# Altium footprint library PcbLib1_2019.2.10.PcbLib: 87 footprints (part 3 of 6)
Each footprint in its own frame and in the unit in brackets; x right, y up, seen from the top. Pads: shape width x height; smd on the part's side, far side on the other; paste and mask are expansions set on the pad; w line width, h text height; cw(c..) or ccw(c..) is an arc to the next point about the centre after c.
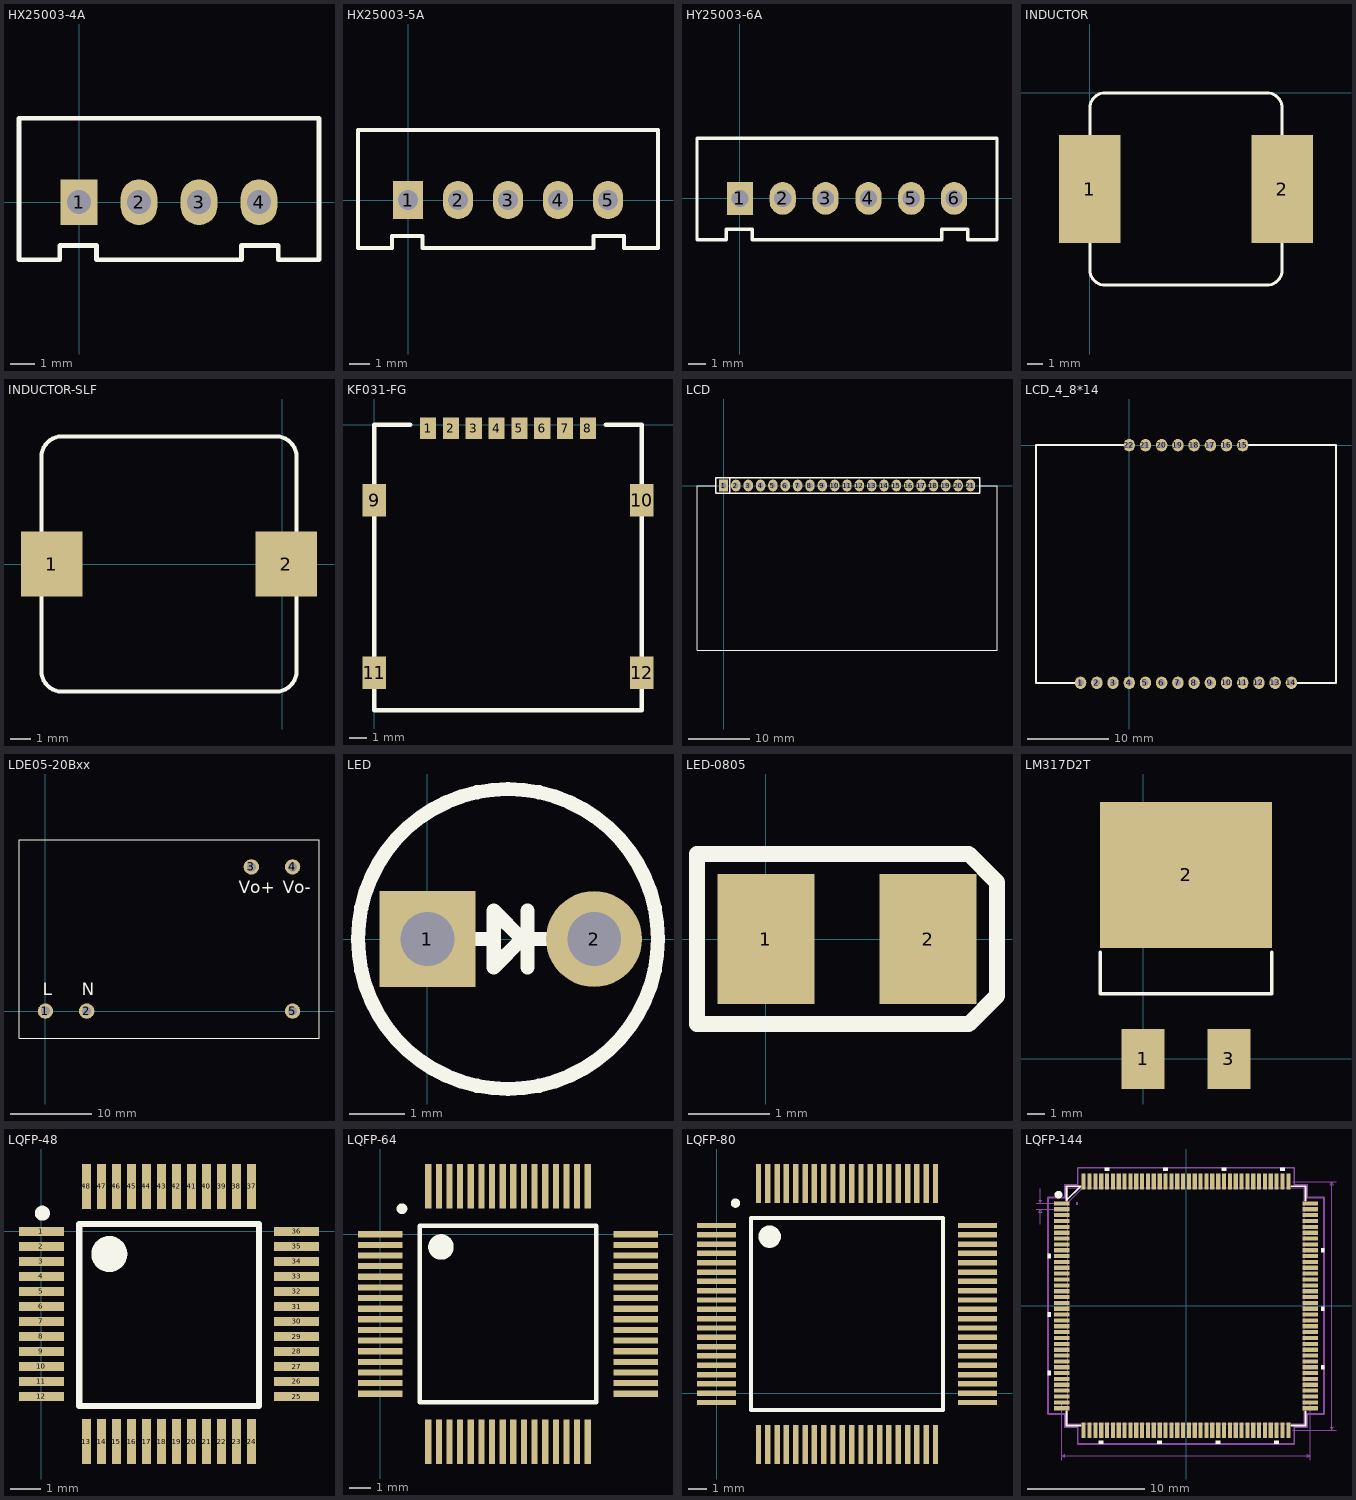
[diagram p2: the footprints below, top view; thin cyan lines are the x and y axes]

## HX25003-4A [mm]
pads (4):
  rect 1.524x1.905 hole 1: 1(0,0)
  oval 1.524x1.905 hole 1: 2(2.5,0) 3(5,0) 4(7.5,0)
Top Overlay:
  lines w0.2: -2.5,3.5 -2.5,-2.4 -0.8,-2.4 -0.8,-1.8 ; 0.73,-1.8 0.73,-2.4 6.77,-2.4 6.77,-1.8 ; 5.02,3.5 10,3.5 10,-2.4 8.3,-2.4 8.3,-1.8
  lines w0.203: -2.5,3.5 5.02,3.5 ; -0.8,-1.8 0.73,-1.8 ; 6.77,-1.8 8.3,-1.8

## HX25003-5A [mm]
pads (5):
  rect 1.524x1.905 hole 1: 1(0,0)
  oval 1.524x1.905 hole 1: 2(2.5,0) 3(5,0) 4(7.5,0) 5(10,0)
Top Overlay:
  lines w0.2: -2.5,3.5 -2.5,-2.4 -0.8,-2.4 -0.8,-1.8 ; 0.73,-1.8 0.73,-2.4 9.27,-2.4 9.27,-1.8 ; 5.02,3.5 12.5,3.5 12.5,-2.4 10.8,-2.4 10.8,-1.8
  lines w0.203: -2.5,3.5 5.02,3.5 ; -0.8,-1.8 0.73,-1.8 ; 9.27,-1.8 10.8,-1.8

## HY25003-6A [mm]
pads (6):
  rect 1.524x1.905 hole 1: 1(0,0)
  oval 1.524x1.905 hole 1: 2(2.5,0) 3(5,0) 4(7.5,0) 5(10,0) 6(12.5,0)
Top Overlay:
  lines w0.2: -2.5,3.5 -2.5,-2.4 -0.8,-2.4 -0.8,-1.8 ; 0.73,-1.8 0.73,-2.4 9.27,-2.4 11.77,-2.4 11.77,-1.8 ; 5.02,3.5 12.5,3.5 15,3.5 15,-2.4 13.3,-2.4 13.3,-1.8
  lines w0.203: -2.5,3.5 5.02,3.5 ; -0.8,-1.8 0.73,-1.8 ; 11.77,-1.8 13.3,-1.8

## INDUCTOR [mm]
pads (2):
  rect 4x7 smd: 1(0,-6.25) 2(12.5,-6.25)
Top Overlay:
  lines w0.2: 0,-11.5 ccw(c1,-11.5) 1,-12.5 11.5,-12.5 ccw(c11.5,-11.5) 12.5,-11.5 12.5,-1 ccw(c11.5,-1) 11.5,0 1,0 ccw(c1,-1) 0,-1 0,-11.5

## INDUCTOR-SLF [mm]
pads (2):
  rect 3x3.2 smd: 1(-11.3,0) 2(0.2,0)
Top Overlay:
  lines w0.2: -11.8,-5.35 -11.8,5.25 cw(c-10.8,5.25) -10.8,6.25 -0.3,6.25 cw(c-0.3,5.25) 0.7,5.25 0.7,-5.3 ; -11.8,-5.25 ccw(c-10.8,-5.25) -10.8,-6.25 ; -10.9,-6.25 -0.25,-6.25 ; -0.3,-6.25 ccw(c-0.3,-5.25) 0.7,-5.25

## KF031-FG [mm]
pads (12):
  rect 0.9x1.2 smd: 1(3.005,-0.2) 2(4.275,-0.2) 3(5.545,-0.2) 4(6.815,-0.2) 5(8.085,-0.2) 6(9.355,-0.2) 7(10.625,-0.2) 8(11.895,-0.2)
  rect 1.3x1.8 smd: 9(0,-4.2) 10(14.9,-4.2) 11(0,-13.8) 12(14.9,-13.8)
Top Overlay:
  lines w0.254: 2,0 0,0 0,-15.9 14.9,-15.9 14.9,0 12.9,0

## LCD [mil]
pads (21):
  rect 60x75 hole 36: 1(0,0)
  oval 60x75 hole 36: 2(78.74,0) 3(157.48,0) 4(236.22,0) 5(314.96,0) 6(393.7,0) 7(472.44,0) 8(551.18,0) 9(629.92,0) 10(708.66,0) 11(787.4,0) 12(866.14,0) 13(944.88,0) 14(1023.62,0) 15(1102.36,0) 16(1181.1,0) 17(1259.84,0) 18(1338.58,0) 19(1417.32,0) 20(1496.06,0) 21(1574.8,0)
Top Overlay:
  lines w7.87: -50,0 -169.29,0 -169.29,-1051.18 1744.09,-1051.18 1744.09,0 1633.86,0
  lines w8: 39.37,-50 39.37,48.96 ; 1633.86,48.96 1633.86,-50 -50,-50 -50,50 1633.86,50

## LCD_4_8*14 [mm]
pads (22):
  oval 1.4x1.524 hole 0.8: 1(-6,-29.3) 2(-4,-29.3) 3(-2,-29.3) 4(0,-29.3) 5(2,-29.3) 6(4,-29.3) 7(6,-29.3) 8(8,-29.3) 9(10,-29.3) 10(12,-29.3) 11(14,-29.3) 12(16,-29.3) 13(18,-29.3) 14(20,-29.3) 15(14,0) 16(12,0) 17(10,0) 18(8,0) 19(6,0) 20(4,0) 21(2,0) 22(0,0)
Top Overlay:
  lines w0.254: -6,-29.3 -11.5,-29.3 -11.5,0 0,0 ; 14,0 25.5,0 25.5,-29.3 20,-29.3

## LDE05-20Bxx [mm]
pads (5):
  round 1.9 hole 1.1: 1(0,0) 2(5.08,0) 3(25.4,17.78) 4(30.48,17.78) 5(30.48,0)
Top Overlay:
  lines w0.1: -3.26,-3.36 -3.26,21.14 33.74,21.14 33.74,-3.36 -3.26,-3.36
  text "L" at -0.339,1.974 h1.52
  text "N" at 4.487,1.974 h1.52
  text "Vo-" at 29.295,14.536 h1.52
  text "Vo+" at 23.834,14.536 h1.52

## LED [mil]
pads (2):
  rect 68x68 hole 38: 1(0,0)
  round 68 hole 38: 2(118.11,0)
Top Overlay:
  circle w10: c57.09,0 r106.37
  lines w10: 29,0 47,0 ; 71,-20 71,0 ; 71,20 71,0 ; 89,0 71,0 ; 47,0 47,20 67,0 47,-20 47,0

## LED-0805 [mm]
pads (2):
  rect 1.2x1.6 smd: 1(0,0) 2(2,0)
Top Overlay:
  lines w0.2: -0.85,-1.05 -0.85,1.05 2.5,1.05 2.85,0.7 2.85,-0.7 2.5,-1.05 -0.85,-1.05

## LM317D2T [mm]
pads (3):
  rect 2.5x3.5 smd: 1(0,0) 3(5,0)
  rect 10x8.5 smd: 2(2.5,10.7)
Top Overlay:
  lines w0.2: -2.5,6.2 -2.5,3.8 7.5,3.8 7.5,6.2

## LQFP-48 [mm]
pads (48):
  rect 1.5x0.3 smd: 1(0,0) 2(0,-0.5) 3(0,-1) 4(0,-1.5) 5(0,-2) 6(0,-2.5) 7(0,-3) 8(0,-3.5) 9(0,-4) 10(0,-4.5) 11(0,-5) 12(0,-5.5) 25(8.5,-5.5) 26(8.5,-5) 27(8.5,-4.5) 28(8.5,-4) 29(8.5,-3.5) 30(8.5,-3) 31(8.5,-2.5) 32(8.5,-2) 33(8.5,-1.5) 34(8.5,-1) 35(8.5,-0.5) 36(8.5,0)
  rect 0.3x1.5 smd: 13(1.5,-7) 14(2,-7) 15(2.5,-7) 16(3,-7) 17(3.5,-7) 18(4,-7) 19(4.5,-7) 20(5,-7) 21(5.5,-7) 22(6,-7) 23(6.5,-7) 24(7,-7) 37(7,1.5) 38(6.5,1.5) 39(6,1.5) 40(5.5,1.5) 41(5,1.5) 42(4.5,1.5) 43(4,1.5) 44(3.5,1.5) 45(3,1.5) 46(2.5,1.5) 47(2,1.5) 48(1.5,1.5)
Top Overlay:
  circle w0.6: c2.259,-0.751 r0.3
  circle w0.25: c0.029,0.61 r0.125
  lines w0.203: 1.259,-5.819 7.25,-5.819 7.25,0.249 1.259,0.249 1.259,-5.819

## LQFP-64 [mm]
pads (64):
  rect 2.1x0.29 smd: 1(0,0) 2(0,-0.5) 3(0,-1) 4(0,-1.5) 5(0,-2) 6(0,-2.5) 7(0,-3) 8(0,-3.5) 9(0,-4) 10(0,-4.5) 11(0,-5) 12(0,-5.5) 13(0,-6) 14(0,-6.5) 15(0,-7) 16(0,-7.5) 33(12,-7.5) 34(12,-7) 35(12,-6.5) 36(12,-6) 37(12,-5.5) 38(12,-5) 39(12,-4.5) 40(12,-4) 41(12,-3.5) 42(12,-3) 43(12,-2.5) 44(12,-2) 45(12,-1.5) 46(12,-1) 47(12,-0.5) 48(12,0)
  rect 0.29x2.1 smd: 17(2.25,-9.75) 18(2.75,-9.75) 19(3.25,-9.75) 20(3.75,-9.75) 21(4.25,-9.75) 22(4.75,-9.75) 23(5.25,-9.75) 24(5.75,-9.75) 25(6.25,-9.75) 26(6.75,-9.75) 27(7.25,-9.75) 28(7.75,-9.75) 29(8.25,-9.75) 30(8.75,-9.75) 31(9.25,-9.75) 32(9.75,-9.75) 49(9.75,2.25) 50(9.25,2.25) 51(8.75,2.25) 52(8.25,2.25) 53(7.75,2.25) 54(7.25,2.25) 55(6.75,2.25) 56(6.25,2.25) 57(5.75,2.25) 58(5.25,2.25) 59(4.75,2.25) 60(4.25,2.25) 61(3.75,2.25) 62(3.25,2.25) 63(2.75,2.25) 64(2.25,2.25)
Top Overlay:
  circle w0.6: c2.85,-0.6 r0.3
  circle w0.25: c1.015,1.2 r0.125
  lines w0.203: 1.85,-7.9 10.15,-7.9 10.15,0.4 1.85,0.4 1.85,-7.9

## LQFP-80 [mm]
pads (80):
  rect 2.1x0.29 smd mask+0.07: 1(0,9) 2(0,8.5) 3(0,8) 4(0,7.5) 5(0,7) 6(0,6.5) 7(0,6) 8(0,5.5) 9(0,5) 10(0,4.5) 11(0,4) 12(0,3.5) 13(0,3) 14(0,2.5) 15(0,2) 16(0,1.5) 17(0,1) 18(0,0.5) 19(0,0) 20(0,-0.5) 41(14,-0.5) 42(14,0) 43(14,0.5) 44(14,1) 45(14,1.5) 46(14,2) 47(14,2.5) 48(14,3) 49(14,3.5) 50(14,4) 51(14,4.5) 52(14,5) 53(14,5.5) 54(14,6) 55(14,6.5) 56(14,7) 57(14,7.5) 58(14,8) 59(14,8.5) 60(14,9)
  rect 0.29x2.1 smd mask+0.07: 21(2.25,-2.75) 22(2.75,-2.75) 23(3.25,-2.75) 24(3.75,-2.75) 25(4.25,-2.75) 26(4.75,-2.75) 27(5.25,-2.75) 28(5.75,-2.75) 29(6.25,-2.75) 30(6.75,-2.75) 31(7.25,-2.75) 32(7.75,-2.75) 33(8.25,-2.75) 34(8.75,-2.75) 35(9.25,-2.75) 36(9.75,-2.75) 37(10.25,-2.75) 38(10.75,-2.75) 39(11.25,-2.75) 40(11.75,-2.75) 61(11.75,11.25) 62(11.25,11.25) 63(10.75,11.25) 64(10.25,11.25) 65(9.75,11.25) 66(9.25,11.25) 67(8.75,11.25) 68(8.25,11.25) 69(7.75,11.25) 70(7.25,11.25) 71(6.75,11.25) 72(6.25,11.25) 73(5.75,11.25) 74(5.25,11.25) 75(4.75,11.25) 76(4.25,11.25) 77(3.75,11.25) 78(3.25,11.25) 79(2.75,11.25) 80(2.25,11.25)
Top Overlay:
  circle w0.6: c2.85,8.4 r0.3
  circle w0.25: c1.015,10.2 r0.125
  lines w0.203: 1.85,-0.9 1.85,9.4 12.15,9.4 12.15,-0.9 1.85,-0.9

## LQFP-144 [mm]
pads (144):
  rect 1.346x0.356 smd: 1(-10.625,8.75) 2(-10.625,8.25) 3(-10.625,7.75) 4(-10.625,7.25) 5(-10.625,6.75) 6(-10.625,6.25) 7(-10.625,5.75) 8(-10.625,5.25) 9(-10.625,4.75) 10(-10.625,4.25) 11(-10.625,3.75) 12(-10.625,3.25) 13(-10.625,2.75) 14(-10.625,2.25) 15(-10.625,1.75) 16(-10.625,1.25) 17(-10.625,0.75) 18(-10.625,0.25) 19(-10.625,-0.25) 20(-10.625,-0.75) 21(-10.625,-1.25) 22(-10.625,-1.75) 23(-10.625,-2.25) 24(-10.625,-2.75) 25(-10.625,-3.25) 26(-10.625,-3.75) 27(-10.625,-4.25) 28(-10.625,-4.75) 29(-10.625,-5.25) 30(-10.625,-5.75) 31(-10.625,-6.25) 32(-10.625,-6.75) 33(-10.625,-7.25) 34(-10.625,-7.75) 35(-10.625,-8.25) 36(-10.625,-8.75) 73(10.625,-8.75) 74(10.625,-8.25) 75(10.625,-7.75) 76(10.625,-7.25) 77(10.625,-6.75) 78(10.625,-6.25) 79(10.625,-5.75) 80(10.625,-5.25) 81(10.625,-4.75) 82(10.625,-4.25) 83(10.625,-3.75) 84(10.625,-3.25) 85(10.625,-2.75) 86(10.625,-2.25) 87(10.625,-1.75) 88(10.625,-1.25) 89(10.625,-0.75) 90(10.625,-0.25) 91(10.625,0.25) 92(10.625,0.75) 93(10.625,1.25) 94(10.625,1.75) 95(10.625,2.25) 96(10.625,2.75) 97(10.625,3.25) 98(10.625,3.75) 99(10.625,4.25) 100(10.625,4.75) 101(10.625,5.25) 102(10.625,5.75) 103(10.625,6.25) 104(10.625,6.75) 105(10.625,7.25) 106(10.625,7.75) 107(10.625,8.25) 108(10.625,8.75)
  rect 0.356x1.346 smd: 37(-8.75,-10.625) 38(-8.25,-10.625) 39(-7.75,-10.625) 40(-7.25,-10.625) 41(-6.75,-10.625) 42(-6.25,-10.625) 43(-5.75,-10.625) 44(-5.25,-10.625) 45(-4.75,-10.625) 46(-4.25,-10.625) 47(-3.75,-10.625) 48(-3.25,-10.625) 49(-2.75,-10.625) 50(-2.25,-10.625) 51(-1.75,-10.625) 52(-1.25,-10.625) 53(-0.75,-10.625) 54(-0.25,-10.625) 55(0.25,-10.625) 56(0.75,-10.625) 57(1.25,-10.625) 58(1.75,-10.625) 59(2.25,-10.625) 60(2.75,-10.625) 61(3.25,-10.625) 62(3.75,-10.625) 63(4.25,-10.625) 64(4.75,-10.625) 65(5.25,-10.625) 66(5.75,-10.625) 67(6.25,-10.625) 68(6.75,-10.625) 69(7.25,-10.625) 70(7.75,-10.625) 71(8.25,-10.625) 72(8.75,-10.625) 109(8.75,10.625) 110(8.25,10.625) 111(7.75,10.625) 112(7.25,10.625) 113(6.75,10.625) 114(6.25,10.625) 115(5.75,10.625) 116(5.25,10.625) 117(4.75,10.625) 118(4.25,10.625) 119(3.75,10.625) 120(3.25,10.625) 121(2.75,10.625) 122(2.25,10.625) 123(1.75,10.625) 124(1.25,10.625) 125(0.75,10.625) 126(0.25,10.625) 127(-0.25,10.625) 128(-0.75,10.625) 129(-1.25,10.625) 130(-1.75,10.625) 131(-2.25,10.625) 132(-2.75,10.625) 133(-3.25,10.625) 134(-3.75,10.625) 135(-4.25,10.625) 136(-4.75,10.625) 137(-5.25,10.625) 138(-5.75,10.625) 139(-6.25,10.625) 140(-6.75,10.625) 141(-7.25,10.625) 142(-7.75,10.625) 143(-8.25,10.625) 144(-8.75,10.625)
Top Overlay:
  circle w0.5: c-10.9,9.5 r0.076
  region: -11.552,4.44 -11.806,4.44 -11.806,4.059 -11.552,4.059
  region: -11.552,-0.56 -11.806,-0.56 -11.806,-0.941 -11.552,-0.941
  region: -11.552,-5.56 -11.806,-5.56 -11.806,-5.941 -11.552,-5.941
  region: -7.06,-11.552 -7.441,-11.552 -7.441,-11.806 -7.06,-11.806
  region: -2.06,-11.552 -2.441,-11.552 -2.441,-11.806 -2.06,-11.806
  region: 2.94,-11.552 2.559,-11.552 2.559,-11.806 2.94,-11.806
  region: 7.94,-11.552 7.559,-11.552 7.559,-11.806 7.94,-11.806
  region: 11.552,-5.059 11.806,-5.059 11.806,-5.44 11.552,-5.44
  region: 11.552,-0.059 11.806,-0.059 11.806,-0.44 11.552,-0.44
  region: 11.552,4.941 11.806,4.941 11.806,4.56 11.552,4.56
  region: 8.441,11.552 8.06,11.552 8.06,11.806 8.441,11.806
  region: 3.441,11.552 3.06,11.552 3.06,11.806 3.441,11.806
  region: -1.559,11.552 -1.94,11.552 -1.94,11.806 -1.559,11.806
  region: -6.559,11.552 -6.94,11.552 -6.94,11.806 -6.559,11.806
  lines w0.152: -10.223,-9.004 -10.223,-10.223 -9.004,-10.223 ; 9.004,-10.223 10.223,-10.223 10.223,-9.004 ; 9.004,10.223 10.223,10.223 10.223,9.004 ; -10.223,9.004 -9.004,10.223 -10.223,10.223 -10.223,9.004
Mechanical 7:
  lines w0.025: -12.822,8.25 -10.625,8.25 ; -12.822,8.75 -10.625,8.75 ; -12.441,6.98 -12.441,8.25 ; -12.441,10.02 -12.441,8.75 ; -10.625,-13.203 -10.625,-8.394 ; 9.106,-10.625 12.822,-10.625 ; 9.106,10.625 12.822,10.625 ; 10.625,-13.203 10.625,-8.394 ; -12.441,8.25 -12.568,7.996 -12.314,7.996 -12.441,8.25 ; -12.441,8.75 -12.568,9.004 -12.314,9.004 -12.441,8.75 ; -10.625,-12.822 10.625,-12.822 ; -10.625,-12.822 -10.371,-12.695 -10.371,-12.949 -10.625,-12.822 ; 10.625,-12.822 10.371,-12.695 10.371,-12.949 10.625,-12.822 ; 12.441,-10.625 12.441,10.625 ; 12.441,-10.625 12.314,-10.371 12.568,-10.371 12.441,-10.625 ; 12.441,10.625 12.314,10.371 12.568,10.371 12.441,10.625
  text "0.837in/21.25mm" at -2.381,-13.965 h0.64
Mechanical 13:
  circle w0: c-9.317,8.75 r0.076
  lines w0.025: -10.096,8.826 -8.826,10.096 ; -10.096,-10.096 10.096,-10.096 10.096,10.096 -10.096,10.096 -10.096,-10.096
Mechanical 15:
  lines w0.152: -11.806,-9.258 -10.351,-9.258 -10.351,-10.351 -9.258,-10.351 -9.258,-11.806 9.258,-11.806 9.258,-10.351 10.351,-10.351 10.351,-9.258 11.806,-9.258 11.806,9.258 10.351,9.258 10.351,10.351 9.258,10.351 9.258,11.806 -9.258,11.806 -9.258,10.351 -10.351,10.351 -10.351,9.258 -11.806,9.258 -11.806,-9.258
3D body: height 0.25, standoff 0, extent 0,0 0.254,0.254